# Altium footprint library u104Systems.PcbLib: 10 footprints
Each footprint in its own frame and in the unit in brackets; x right, y up, seen from the top. Pads: shape width x height; smd on the part's side, far side on the other; paste and mask are expansions set on the pad; w line width, h text height; cw(c..) or ccw(c..) is an arc to the next point about the centre after c.
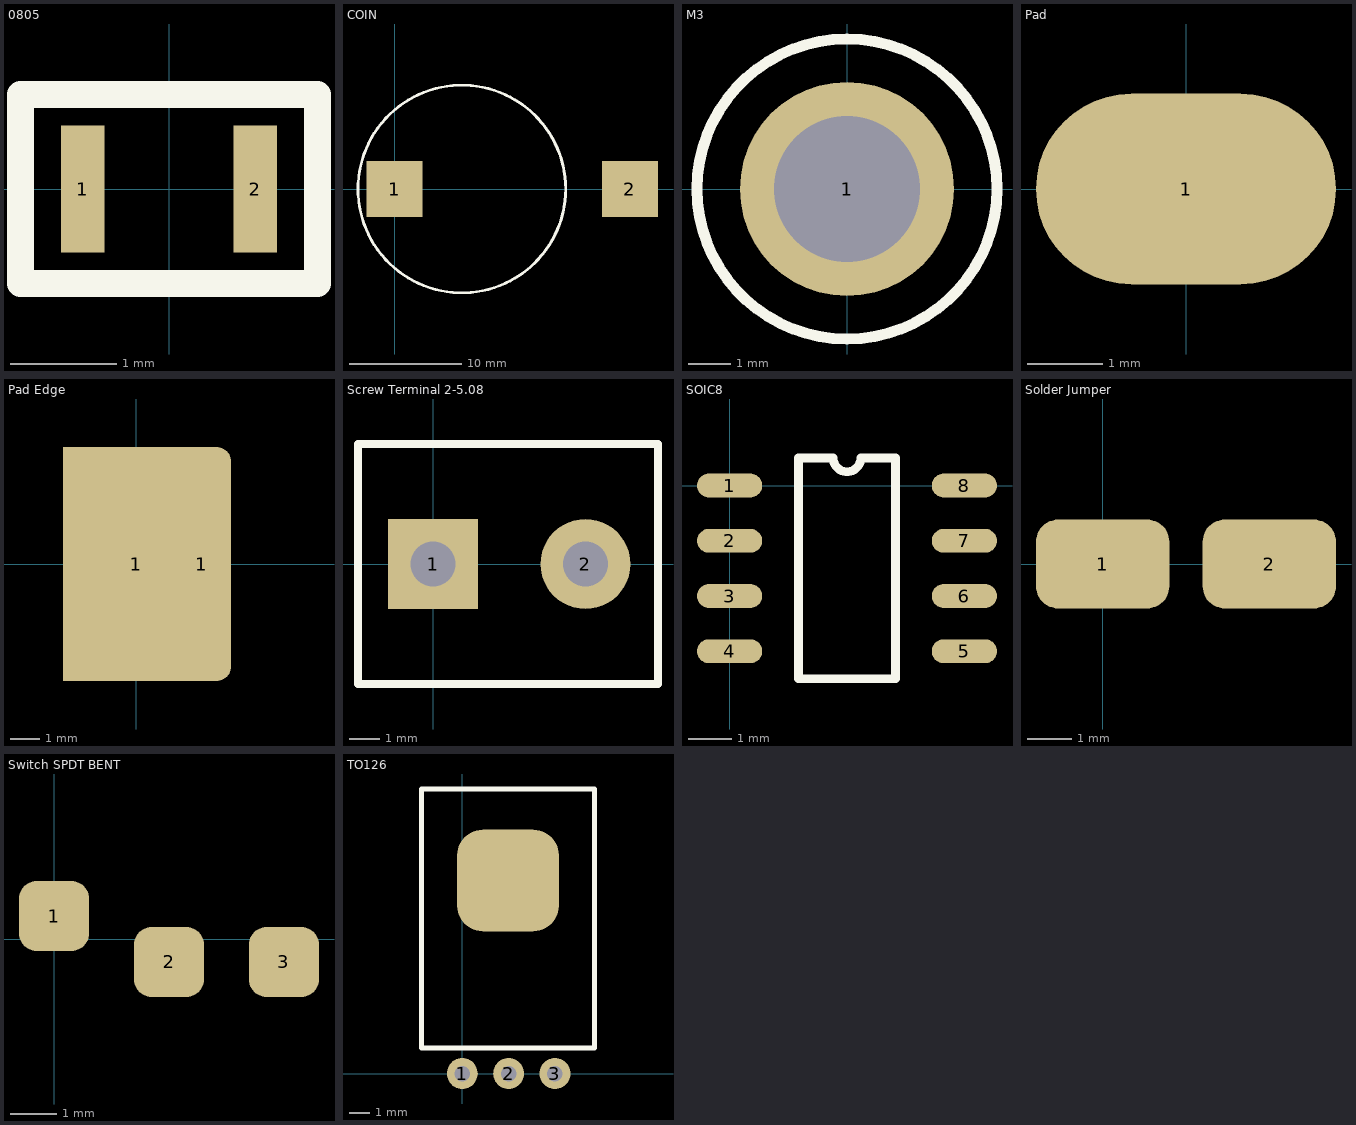
[diagram p0: the footprints below, top view; thin cyan lines are the x and y axes]

## 0805 [mil]
pads (2):
  rect 16x47.24 smd: 1(-32,0) 2(32,0)
Top Overlay:
  lines w10: -55,-35 55,-35 55,35 -55,35 -55,-3 -55,-35

## COIN [mm]
pads (2):
  rect 5x5 all layers, no hole: 1(0,0) 2(21,0)
Top Overlay:
  circle w0.254: c6,0 r9.264

## M3 [mm]
pads (1):
  round 5 hole 3.4: 1(0,0)
Top Overlay:
  circle w0.254: c0,0 r3.5

## Pad [mm]
pads (1):
  oval 4x2.54 all layers, no hole: 1(0,0)

## Pad Edge [mm]
pads (2):
  rect 5x8 all layers, no hole: 1(0,0)
  rrect50% 2x8 all layers, no hole: 1(2.25,0)

## Screw Terminal 2-5.08 [mm]
pads (2):
  rect 3x3 hole 1.5: 1(0,0)
  round 3 hole 1.5: 2(5.08,0)
Top Overlay:
  lines w0.254: -2.5,-4 -2.5,4 2.5,4 7.5,4 7.5,-4 -2.5,-4

## SOIC8 [mm]
pads (8):
  oval 1.5x0.55 smd: 1(0,0) 2(0,-1.27) 3(0,-2.54) 4(0,-3.81) 5(5.4,-3.81) 6(5.4,-2.54) 7(5.4,-1.27) 8(5.4,0)
Top Overlay:
  lines w0.2: 1.585,-4.445 3.815,-4.445 3.815,0.635 3.017,0.635 cw(c2.7,0.635) 2.382,0.635 1.585,0.635 1.585,-4.445
  text "." at 2.032,-0.127 h1.52

## Solder Jumper [mm]
pads (2):
  rrect50% 3x2 all layers, no hole: 1(0,0) 2(3.75,0)

## Switch SPDT BENT [mil]
pads (3):
  rrect50% 60x60 all layers, no hole: 1(0,19.68) 2(98.43,-19.68) 3(196.85,-19.68)

## TO126 [mil]
pads (4):
  round 60 hole 30: 1(0,0) 2(89.76,0) 3(179.53,0)
  rrect50% 196.85x196.85 all layers, no hole: ""(88.58,374.02)
Top Overlay:
  lines w10: 0,49.21 -78.74,49.21 ; -78.74,49.21 255.91,49.21 255.91,551.18 -78.74,551.18 -78.74,196.85 -78.74,49.21